# EAGLE library part BM09B-SRSS-TB (library Con_JST_SH)
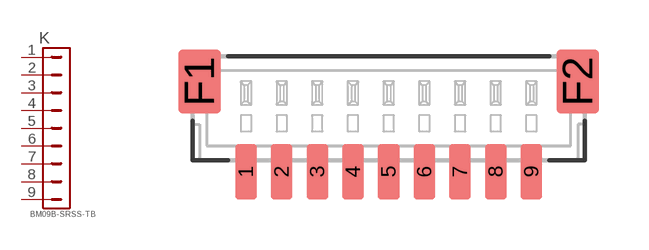
[diagram p3: symbol with the pads of BM09B-SRSS-TB; footprint BM09B-SRSS-TB]

Designator prefix K

## BM09B-SRSS-TB  [BM09B-SRSS-TB]
1  1  pas
2  2  pas
3  3  pas
4  4  pas
5  5  pas
6  6  pas
7  7  pas
8  8  pas
9  9  pas

## Footprint BM09B-SRSS-TB (pad centres in mm)
smd 0.6 x 1.55: 1 -4,-1.325; 2 -3,-1.325; 3 -2,-1.325; 4 -1,-1.325; 5 0,-1.325; 6 1,-1.325; 7 2,-1.325; 8 3,-1.325; 9 4,-1.325
smd 1.2 x 1.8: F1 -5.3,1.2; F2 5.3,1.2